# EAGLE library part MCV0,5/6G2,5 (library Corey)
Phoenix Contact 6 pin socket with 2.5mm pitch
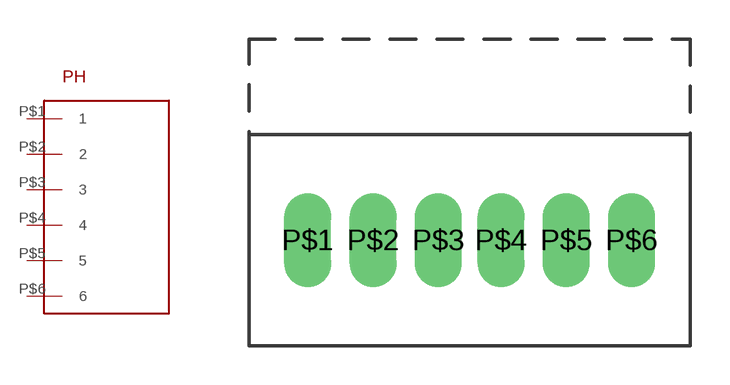
[diagram p1: symbol with the pads of MCV0,5/6G2,5; footprint MCV0,5/6G2,5]

Designator prefix PH

## MCV0,5/6G2,5  [MCV0,5/6G2,5]
P$1  1  pas
P$2  2  pas
P$3  3  pas
P$4  4  pas
P$5  5  pas
P$6  6  pas

## Footprint MCV0,5/6G2,5 (pad centres in mm)
drill 1.2 long: P$1 -6.2,0; P$2 -3.7,0; P$3 -1.2,0; P$4 1.2,0; P$5 3.7,0; P$6 6.2,0